# Altium integrated library RES.IntLib: 10 symbols
Pins are listed as number, name and electrical type; pins without a type are passive.

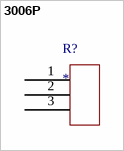
[diagram p0: symbol 3006P]

## 3006P
designator R?
footprint 3006P
pins: 1, 2, 3


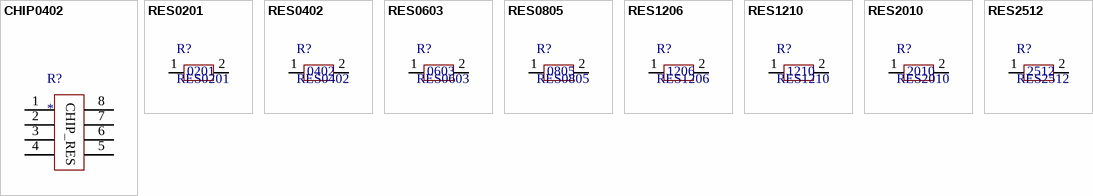
[diagram p1: symbols CHIP0402 to RES2512]

## CHIP0402
designator R?
footprint CHIP0402 (Chip Array, Flat, 8-Leads, Pitch 0.50mm,  Body 2.00x1.00mm,  IPC Low Density)
pins: 1, 2, 3, 4, 5, 6, 7, 8
text: CHIP_RES

## RES0201
designator R?
footprint RES0201 (Chip Resistor, 2-Leads, Body 0.6x0.3mm, IPC High Density)
pins: 1, 2
text: 0201

## RES0402
designator R?
footprint RES0402 (Chip Resistor, 2-Leads, Body 1.0x0.5mm, IPC High Density)
pins: 1, 2
text: 0402

## RES0603
designator R?
footprint RES0603 (Chip Resistor, 2-Leads, Body 1.6x0.8mm, IPC High Density)
pins: 1, 2
text: 0603

## RES0805
designator R?
footprint RES0805 (Chip Resistor, 2-Leads, Body 2.0x1.3mm, IPC Medium Density)
pins: 1, 2
text: 0805

## RES1206
designator R?
footprint RES1206 (Chip Resistor, 2-Leads, Body 3.2x1.6mm, IPC Medium Density)
pins: 1, 2
text: 1206

## RES1210
designator R?
footprint RES1210 (Chip Resistor, 2-Leads, Body 3.2x2.5mm, IPC Medium Density)
pins: 1, 2
text: 1210

## RES2010
designator R?
footprint RES2010 (Chip Resistor, 2-Leads, Body 5.0x2.5mm, IPC Medium Density)
pins: 1, 2
text: 2010

## RES2512
designator R?
footprint RES2512 (Chip Resistor, 2-Leads, Body 6.4x3.2mm, IPC Medium Density)
pins: 1, 2
text: 2512